# Altium schematic symbol library SX1280IMLTRT.Schlib: 1 symbol
Pins are listed as number, name and electrical type; pins without a type are passive.

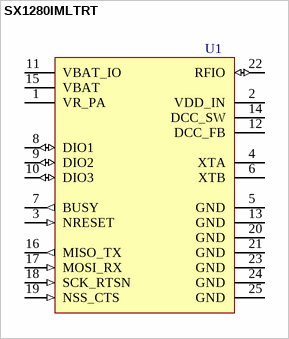
[diagram p0: symbol SX1280IMLTRT]

## SX1280IMLTRT
designator U1
pins: 1 VR_PA (power), 2 VDD_IN (power), 3 NRESET (in), 4 XTA, 5 GND (power), 6 XTB, 7 BUSY (out), 8 DIO1 (io), 9 DIO2 (io), 10 DIO3 (io), 11 VBAT_IO (power), 12 DCC_FB (power), 13 GND (power), 14 DCC_SW (power), 15 VBAT (power), 16 MISO_TX (out), 17 MOSI_RX (in), 18 SCK_RTSN (in), 19 NSS_CTS (in), 20 GND (power), 21 GND (power), 22 RFIO (io), 23 GND (power), 24 GND (power), 25 GND (power)